# EAGLE library part 618044325323 (library EAGLE-INPUT_OUTPUT_CONNECTORS-rev17c)
WR-DSUB Male High Density Angled PCB Connector without Hex Screw, 44 Pins=>Code : Con_I-O_DSUB_PCB_Male_wo-screw_618044325323 <http://katalog.we-online.de/media/images/eican/Con_I-O_DSUB_PCB_Male_wo-screw_6180xx325323_pf2.jpg> Details see: http://katalog.we-online.de/en/em/DSUB_MALE_HIGH_DENSITY_ANGLED_PCB_CONNECTOR_W_O_HEX_SCREW_6180XX325323 Created 2014-07-10, Karrer Zheng 2014 (C) Würth Elektronik
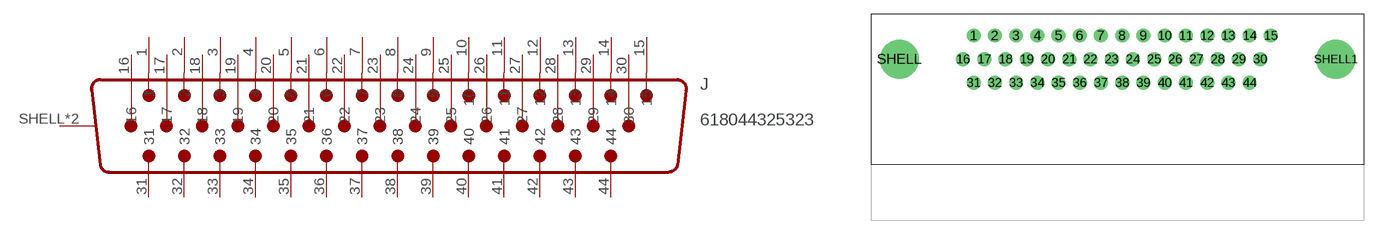
[diagram p54: symbol with the pads of 618044325323; footprint 618044325323]

Designator prefix J

## 618044325323  [618044325323]
1  1
2  2
3  3
4  4
5  5
6  6
7  7
8  8
9  9
10  10
11  11
12  12
13  13
14  14
15  15
16  16
17  17
18  18
19  19
20  20
21  21
22  22
23  23
24  24
25  25
26  26
27  27
28  28
29  29
30  30
31  31
32  32
33  33
34  34
35  35
36  36
37  37
38  38
39  39
40  40
41  41
42  42
43  43
44  44
SHELL  SHIELD
SHELL1  SHIELD

## Footprint 618044325323 (pad centres in mm)
WR-DSUB Male High Density Angled PCB Connector without Hex Screw, 44 Pins
drill 1: 1 -15.53,2.54; 2 -13.24,2.54; 3 -10.95,2.54; 4 -8.66,2.54; 5 -6.37,2.54; 6 -4.08,2.54; 7 -1.79,2.54; 8 0.5,2.54; 9 2.79,2.54; 10 5.08,2.54; 11 7.37,2.54; 12 9.66,2.54; 13 11.95,2.54; 14 14.24,2.54; 15 16.53,2.54; 16 -16.67,0; 17 -14.38,0; 18 -12.09,0; 19 -9.8,0; 20 -7.51,0; 21 -5.22,0; 22 -2.93,0; 23 -0.64,0; 24 1.65,0; 25 3.94,0; 26 6.23,0; 27 8.52,0; 28 10.81,0; 29 13.1,0; 30 15.39,0; 31 -15.53,-2.54; 32 -13.24,-2.54; 33 -10.95,-2.54; 34 -8.66,-2.54; 35 -6.37,-2.54; 36 -4.08,-2.54; 37 -1.79,-2.54; 38 0.5,-2.54; 39 2.79,-2.54; 40 5.08,-2.54; 41 7.37,-2.54; 42 9.66,-2.54; 43 11.95,-2.54; 44 14.24,-2.54
drill 3.2: SHELL -23.55,0; SHELL1 23.55,0